# Altium footprint library eSurf_board.PcbLib: 8 footprints
Each footprint in its own frame and in the unit in brackets; x right, y up, seen from the top. Pads: shape width x height; smd on the part's side, far side on the other; paste and mask are expansions set on the pad; w line width, h text height; cw(c..) or ccw(c..) is an arc to the next point about the centre after c.
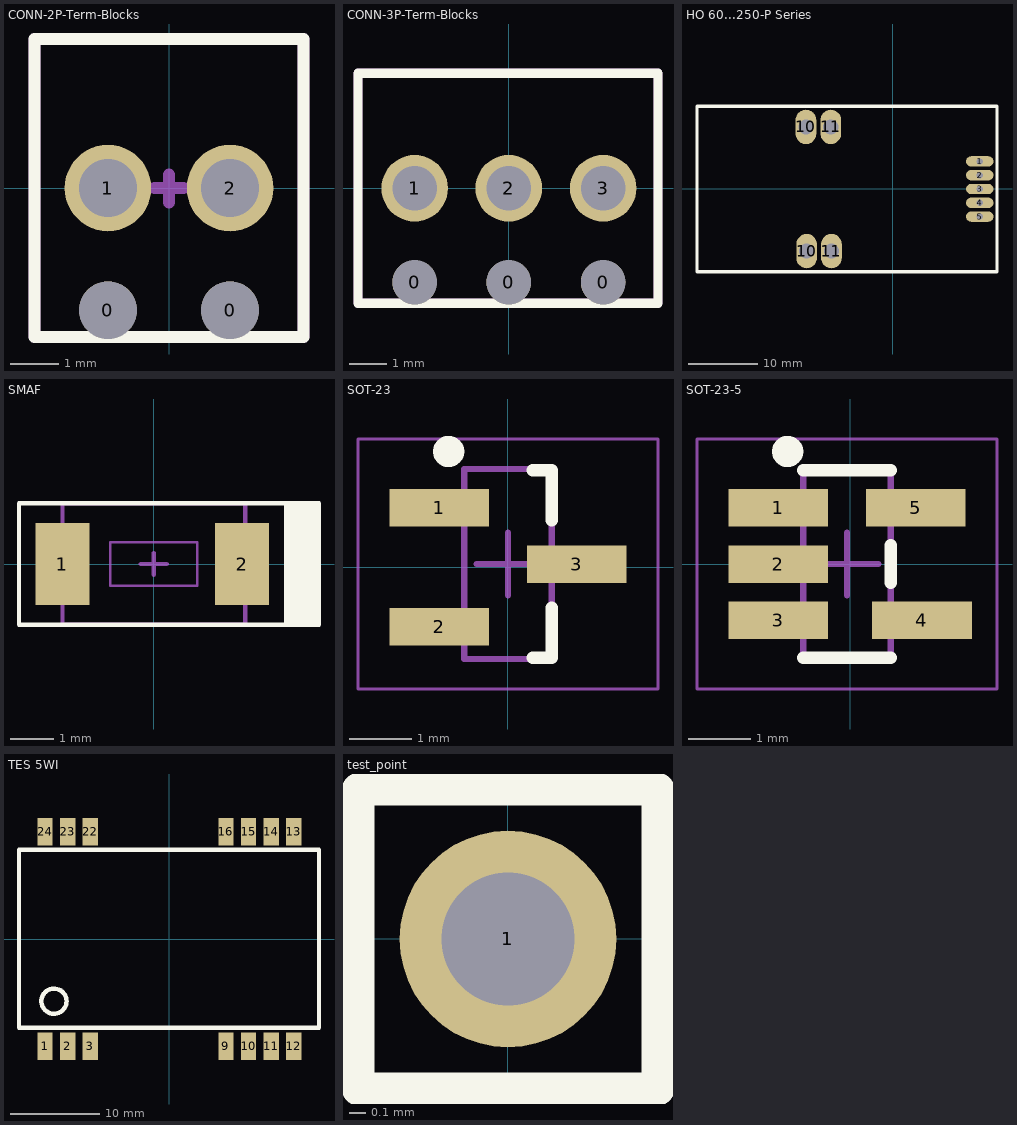
[diagram p0: the footprints below, top view; thin cyan lines are the x and y axes]

## CONN-2P-Term-Blocks [mm]
pads (4):
  round 1.2 hole 1.2: 0(-1.27,-2.54) 0(1.27,-2.54)
  round 1.8 hole 1.2: 1(-1.27,0) 2(1.27,0)
Top Overlay:
  lines w0.254: -2.8,-3.1 2.8,-3.1 2.8,3.1 -2.8,3.1 -2.8,-3.1
Mechanical 13:
  lines w0.1: -2.8,-3.1 -2.8,3.1 2.8,3.1 2.8,-3.1 -2.8,-3.1
Mechanical 15:
  lines w0.254: -0.3,0 0.3,0 ; 0,-0.3 0,0.275 ; -2.8,-3.1 2.8,-3.1 2.8,3.1 -2.8,3.1 -2.8,-3.1
3D body "1725656.stp": height 8.5, standoff -3.5, extent -2.77,-3.1 2.77,3.1

## CONN-3P-Term-Blocks [mm]
pads (6):
  round 1.2 hole 1.2: 0(-2.54,-2.54) 0(0,-2.54) 0(2.55,-2.539)
  round 1.8 hole 1.2: 1(-2.54,0) 2(0,0) 3(2.55,0)
Top Overlay:
  lines w0.254: -4.07,-3.1 4.03,-3.1 4.03,3.1 -4.07,3.1 -4.07,-3.1
Mechanical 13:
  lines w0.1: -4.07,-3.1 -4.07,3.1 4.03,3.1 4.03,-3.1 -4.07,-3.1
Mechanical 15:
  lines w0.254: -0.341,0 0.259,0 ; -0.041,-0.3 -0.041,0.275 ; -4.07,-3.1 4.03,-3.1 4.03,3.1 -4.07,3.1 -4.07,-3.1
3D body "1725669.stp": height 8.5, standoff -3.5, extent -4.05,-3.1 4.03,3.1

## HO 60...250-P Series [mm]
pads (9):
  oval 4x1.5 hole 0.9: 1(12.6,4) 2(12.6,2) 3(12.6,0) 4(12.6,-2) 5(12.6,-4)
  oval 3x5 hole 2.2: 10(-12.6,9) 10(-12.5,-9) 11(-9,9) 11(-8.9,-9)
Top Overlay:
  lines w0.5: -28.4,-12 15.1,-12 15.1,12 -28.4,12 -28.4,-12
3D body "HO-P series.stp": height 30.21, standoff -3.09, extent -28.516,-10.9 14.316,10.997

## SMAF [mm]
pads (2):
  rect 1.24x1.89 smd: 1(-2.1,0) 2(2.032,0)
Top Overlay:
  rectangle: 3,-1.397 3.8,1.4
  lines w0.1: -3.1,-1.397 3.8,-1.397 3.8,1.4 -3.1,1.4 -3.1,-1.397
Mechanical 13:
  lines w0.1: -2.1,-1.4 2.1,-1.4 2.1,1.4 -2.1,1.4 -2.1,-1.4
Mechanical 15:
  lines w0.05: -1,-0.5 -1,0.5 1,0.5 1,-0.5 -1,-0.5
  lines w0.1: -0.3,0 0.3,0 ; 0,-0.25 0,0.254
3D body: height 0.5, standoff 0, extent 1.6,-0.6 2.134,0.6
3D body: height 0.5, standoff 0, extent -2.087,-0.6 -1.5,0.6
3D body: height 1.1, standoff 0, extent -1.5,-1.4 1.6,1.4

## SOT-23 [mm] "SOT23, 3-Leads, Body 2.9x1.3mm, Pitch 0.96mm, IPC Low Density"
height 1.12
pads (3):
  rect 1.6x0.6 smd: 1(-1.1,0.95) 2(-1.1,-0.95) 3(1.1,0.05)
Top Overlay:
  circle w0.25: c-0.95,1.85 r0.125
  lines w0.2: 0.4,-1.45 0.7,-1.45 0.7,-0.65 ; 0.4,1.55 0.7,1.55 0.7,0.75
Mechanical 13:
  lines w0.1: -0.7,-1.47 0.7,-1.47 0.7,1.57 -0.7,1.57 -0.7,-1.47
Mechanical 15:
  lines w0.05: -2.4,-1.95 2.4,-1.95 2.4,2.05 -2.4,2.05 -2.4,-1.95
  lines w0.1: -0.5,0.05 0.5,0.05 ; 0,-0.45 0,0.55
3D body: height 1.12, standoff 0.01, extent -0.7,-1.47 0.7,1.57

## SOT-23-5 [mm] "SOT23, 3-Leads, Body 2.9x1.3mm, Pitch 0.96mm, IPC Low Density"
height 1.12
pads (5):
  rect 1.6x0.6 smd: 1(-1.15,0.9) 2(-1.15,0) 3(-1.15,-0.9) 4(1.15,-0.9) 5(1.05,0.9)
Top Overlay:
  circle w0.25: c-1,1.8 r0.125
  lines w0.2: -0.75,-1.5 0.65,-1.5 ; -0.75,1.5 0.65,1.5 ; 0.65,-0.3 0.65,0.3
Mechanical 13:
  lines w0.1: -0.75,-1.52 -0.75,1.52 0.65,1.52 0.65,-1.52 -0.75,-1.52
Mechanical 15:
  lines w0.05: -2.45,-2 -2.45,2 2.35,2 2.35,-2 -2.45,-2
  lines w0.1: -0.55,0 0.45,0 ; -0.05,-0.5 -0.05,0.5
3D body: height 1.12, standoff 0.01, extent -0.75,-1.52 0.65,1.52

## TES 5WI [mm] "TECO power 5WI series, DC/DC converters 5 Watt"
height 10.2
pads (14):
  rect 1.7x3.1 smd: 1(-13.97,-12.065) 2(-11.43,-12.065) 3(-8.89,-12.065) 9(6.35,-12.065) 10(8.89,-12.065) 11(11.43,-12.065) 12(13.97,-12.065) 13(13.97,12.065) 14(11.43,12.065) 15(8.89,12.065) 16(6.35,12.065) 22(-8.89,12.065) 23(-11.43,12.065) 24(-13.97,12.065)
Top Overlay:
  circle w0.5: c-12.97,-6.985 r1.414
  lines w0.5: -16.9,-9.985 16.8,-9.985 16.8,10.015 -16.9,10.015 -16.9,-9.985
3D body: height 10.2, standoff 0.4, extent -16.7,-10 16.7,10

## test_point [mm]
pads (1):
  round 1.3 hole 0.8: 1(0,0)
Top Overlay:
  lines w0.2: -0.9,-0.9 -0.9,0.9 0.9,0.9 0.9,-0.9 -0.9,-0.9